# EAGLE library part MM74HCT245WM (library Fairchild_By_element14_Batch_1)
Octal 3-STATE Transceiver
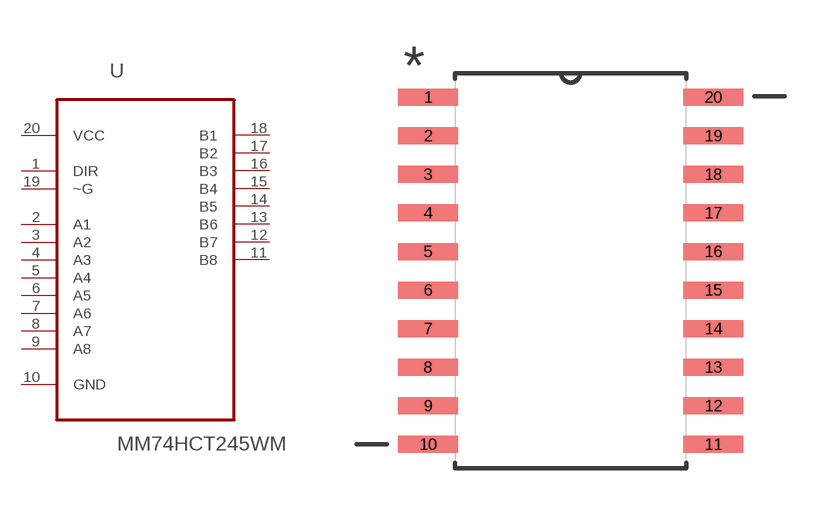
[diagram p324: symbol with the pads of SOIC127P1032X264-20N; footprint SOIC127P1032X264-20N]

Designator prefix U

## MM74HCT245WM (MPN: MM74HCT245WM; OC_FARNELL: 1014004; OC_NEWARK: 78K6047; PACKAGE: SOIC-20; SUPPLIER: Fairchild Semiconductor)  [SOIC127P1032X264-20N]
1  DIR  in
2  A1
3  A2
4  A3
5  A4
6  A5
7  A6
8  A7
9  A8
10  GND  pas
11  B8
12  B7
13  B6
14  B5
15  B4
16  B3
17  B2
18  B1
19  ~G  in
20  VCC  pwr

## Footprint SOIC127P1032X264-20N (pad centres in mm)
smd 1.981 x 0.559: 1 -4.699,5.715; 2 -4.699,4.445; 3 -4.699,3.175; 4 -4.699,1.905; 5 -4.699,0.635; 6 -4.699,-0.635; 7 -4.699,-1.905; 8 -4.699,-3.175; 9 -4.699,-4.445; 10 -4.699,-5.715; 11 4.699,-5.715; 12 4.699,-4.445; 13 4.699,-3.175; 14 4.699,-1.905; 15 4.699,-0.635; 16 4.699,0.635; 17 4.699,1.905; 18 4.699,3.175; 19 4.699,4.445; 20 4.699,5.715